# Altium schematic symbol library RF_Adaptor.SCHLIB: 29 symbols
Pins are listed as number, name and electrical type; pins without a type are passive.

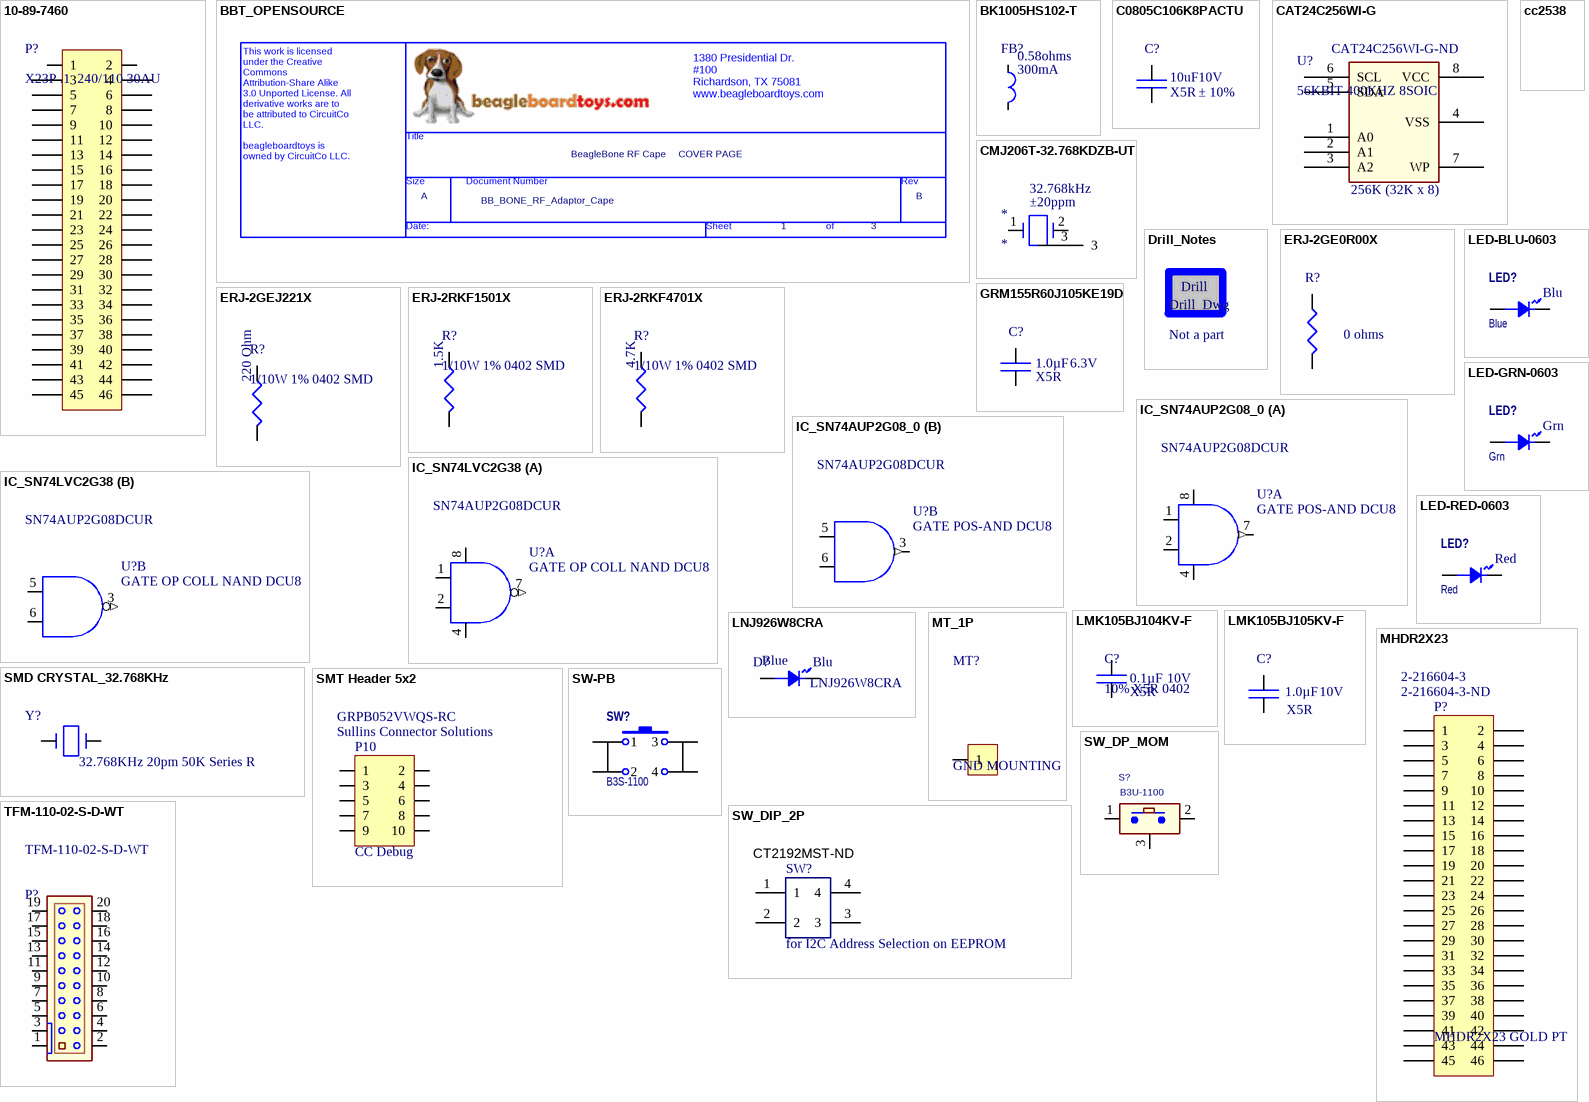
[diagram p0: symbols 10-89-7460 to TFM-110-02-S-D-WT]

## 10-89-7460
designator P?, comment X23P .1  240/110 30AU
Headers & Wire Housings HDR VT 2X23P .1  240/110 30AU; Manufacturer: Molex; Current Rating: 3 A; Mounting Angle: Vertical; Voltage Rating: 250 V; Pitch: 2.54 mm; Number of Positions / Contacts: 46; Supplier 1: Mouser; RoHS: RoHS Compliant; Category: Headers & Wire Housings; Stock 1: 0; Pricing 1: 890=3.47, 1000=3.29 (AUD); Contact Plating: Gold; Housing Material: Thermoplastic, High Temperature; Number of Rows: 2; Packaging: Bag; Series: C-Grid Series; Termination Style: Solder; Contact Material: Brass; Mounting Style: Through Hole; Product Category: C-Grid Connectors; Product Type: Headers - Breakaway; Standard Pack Qty: 375; RoHS - Mouser: Y; Minimum Order Quantity: 890; Reeling: False; ComponentLink1URL: http://www.molex.com/webdocs/datasheets/pdf/en-us/0010897460_PCB_HEADERS.pdf; ComponentLink1Description: http://www.molex.com/webdocs/datasheets/pdf/en-us/0010897460_PCB_HEADERS.pdf; Supplier Part Number 1: 538-10-89-7460; Manufacturer Part Number: 10-89-7460
footprint HEADER23X2
pins: 1, 2, 3, 4, 5, 6, 7, 8, 9, 10, 11, 12, 13, 14, 15, 16, 17, 18, 19, 20, 21, 22, 23, 24, 25, 26, 27, 28, 29, 30, 31, 32, 33, 34, 35, 36, 37, 38, 39, 40, 41, 42, 43, 44, 45, 46

## BBT_OPENSOURCE
designator *?  Page Count: 3  Page Number: 1  Page Size: A  Title: BeagleBone RF Cape     COVER PAGE  RevCode: B  Doc: BB_BONE_RF_Adaptor_Cape  (hidden comment: BBT_OPENSOURCE)  (graphical)
OrgName: BBT; Page Create Date: July 16 2012
text: 1380 Presidential Dr. / #100 / Richardson, TX 75081 / www.beagleboardtoys.com /; Title; Size; Document Number; Rev; Date:; Sheet; of; This work is licensed / under the Creative / Commons / Attribution-Share Alike / 3.0 Unported License. All / derivative works are to / be attributed to CircuitCo / LLC. / beagleboardtoys is / owned by CircuitCo LLC. /

## BK1005HS102-T
designator FB?, comment DC Resistance Max: 0.58ohms  DC Current Rating: 300mA  (hidden comment: 0402, 580mOHM, 300mA)
FERRITE BEAD, 0402, 580mOHM, 300mA; Manufacturer: TAIYO YUDEN; Manufacturer Part Number: BK1005HS102-T; Description: TAIYO YUDEN - BK1005HS102-T - FERRITE BEAD, 0402, 580mOHM, 300mA; Impedance: 1; Ferrite Grade: HS; Ferrite Mounting: SMD; Ferrite Case Style: 0402 / 1005; Supplier 1: Newark; RoHS: YES; Stock 1: 9870; Pricing 1: 1=0.328, 10=0.219, 50=0.113, 100=0.088, 250=0.063, 500=0.045, 1000=0.033, 4000=0.024 (USD); Series: LF BK; ComponentLink1URL: http://www.yuden.co.jp/ut/product/category/emisuppression/BK1005HS102-T.pdf; ComponentLink1Description: http://www.yuden.co.jp/ut/product/category/emisuppression/BK1005HS102-T.pdf; ComponentLink2URL: http://www.yuden.co.jp/us/product/pdf_html/pdf/E)Chip%20Beads.pdf; ComponentLink2Description: http://www.yuden.co.jp/us/product/pdf_html/pdf/E)Chip%20Beads.pdf; Supplier Part Number 1: 87K3443
footprint SMT IND 0402 (Chip Inductor, Body 1.0x0.5mm, IPC Medium Density)
pins: 1, 2

## C0805C106K8PACTU
designator C?, comment Dielectric Characteristic: X5R  Capacitance: 10uF  Capacitance Tolerance: ± 10%  Voltage Rating: 10V  (hidden comment: 10V, X5R, 0805)
CAP CER10UF, 10V, X5R, 0805; Manufacturer: KEMET; Manufacturer Part Number: C0805C106K8PACTU; Description: KEMET - C0805C106K8PACTU - CAPACITOR CERAMIC, 10UF, 10V, X5R, 0805; Capacitor Case Style: 0805; Capacitor Mounting: SMD; Supplier 1: Newark; RoHS: YES; Stock 1: 144494; Pricing 1: 1=0.25, 10=0.25, 100=0.24, 500=0.234, 1000=0.2, 2500=0.183, 5000=0.162, 10000=0.157 (USD); Operating Temperature Range: -55°C to +85; ComponentLink1URL: http://www.kemet.com/kemet/web/homepage/kechome.nsf/file/Commercial Ceramic Chips X5R Dielectric/$file/KEM_C1006_X5R_SMD.pdf; ComponentLink1Description: http://www.kemet.com/kemet/web/homepage/kechome.nsf/file/Commercial Ceramic Chips X5R Dielectric/$file/KEM_C1006_X5R_SMD.pdf; ComponentLink2URL: http://www.farnell.com/cad/1455916.zip; ComponentLink2Description: http://www.farnell.com/cad/1455916.zip; ComponentLink3URL: http://www.semtech.com.hk/Transistor/Packing/Tape%20and%20Reel%20Specifications%20and%20Packaging%20Specifications.pdf; ComponentLink3Description: http://www.semtech.com.hk/Transistor/Packing/Tape%20and%20Reel%20Specifications%20and%20Packaging%20Specifications.pdf; ComponentLink4URL: http://www.kemet.com/kemet/web/homepage/kechome.nsf/file/Commercial%20Ceramic%20Chips%20X5R%20Dielectric/$file/F3102_X5R.pdf; ComponentLink4Description: http://www.kemet.com/kemet/web/homepage/kechome.nsf/file/Commercial%20Ceramic%20Chips%20X5R%20Dielectric/$file/F3102_X5R.pdf; Supplier Part Number 1: 70K9138
footprint CC0805
pins: 1, 2

## CAT24C256WI-G
designator U?, comment 56KBIT 400KHZ 8SOIC  Memory Size: 256K (32K x 8)  Supplier Part Number 1: CAT24C256WI-G-ND
IC EEPROM 256KBIT 400KHZ 8SOIC; Manufacturer: ON Semiconductor; Manufacturer Part Number: CAT24C256WI-G; Format - Memory: EEPROMs - Serial; Interface: I²C, 2-Wire Serial; Voltage - Supply: 1.8 V ~ 5.5 V; Supplier 1: Digi-Key; RoHS: RoHS Compliant; Category: Integrated Circuits (ICs); Stock 1: 0; Pricing 1: 1=1.33, 25=1.0624, 100=0.9295, 250=0.81572, 500=0.72086, 1000=0.5691, 2500=0.53116, 5000=0.5046, 10000=0.48374 (USD); Memory Type: EEPROM; Speed: 400kHz; Operating Temperature: -40°C ~ 85°C; Package / Case: 8-SOIC (0.154", 3.90mm Width); Supplier Device Package: 8-SOICN; Packaging: Tube; ComponentLink1URL: http://www.onsemi.com/pub_link/Collateral/CAT24C256-D.PDF; ComponentLink1Description: http://www.onsemi.com/pub_link/Collateral/CAT24C256-D.PDF
footprint SO8 (Small Outline; 8 Leads; Body Width 3.9 mm; Pitch 1.27 mm)
pins: 1 A0, 2 A1, 3 A2, 4 VSS (power), 5 SDA, 6 SCL, 7 WP, 8 VCC (power)

## cc2538
designator ?  (value not drawn)
FERRITE BEAD, 0402, 580mOHM, 300mA; Manufacturer: TAIYO YUDEN; Manufacturer Part Number: BK1005HS102-T; Description: TAIYO YUDEN - BK1005HS102-T - FERRITE BEAD, 0402, 580mOHM, 300mA; Impedance: 1; Ferrite Grade: HS; Ferrite Mounting: SMD; Ferrite Case Style: 0402 / 1005; RoHS: YES; Series: LF BK; ComponentLink1URL: http://www.yuden.co.jp/ut/product/category/emisuppression/BK1005HS102-T.pdf; ComponentLink1Description: http://www.yuden.co.jp/ut/product/category/emisuppression/BK1005HS102-T.pdf; ComponentLink2URL: http://www.yuden.co.jp/us/product/pdf_html/pdf/E)Chip%20Beads.pdf; ComponentLink2Description: http://www.yuden.co.jp/us/product/pdf_html/pdf/E)Chip%20Beads.pdf
footprint CC2538

## CMJ206T-32.768KDZB-UT
designator *  Frequency: 32.768kHz  Frequency Tolerance: ±20ppm
CRYSTAL 32.768 KHZ 6PF SMD; Manufacturer: Citizen Finetech Miyota; Manufacturer Part Number: CMJ206T-32.768KDZB-UT; Operating Mode: Fundamental; Supplier 1: Digi-Key; RoHS: RoHS Compliant; Category: Crystals and Oscillators; Stock 1: 30000; Pricing 1: 3000=0.297, 6000=0.286, 12000=0.275, 27000=0.264 (USD); Type: kHz Crystal (Tuning Fork); Frequency Stability: -; Load Capacitance: 6pF; Operating Temperature: -40°C ~ 85°C; Mounting Type: Surface Mount; Package / Case: Cylindrical Can, Radial; Size / Dimension: 0.098" Dia x 0.236" L (2.50mm x 6.00mm); Height: 0.098" (2.50mm); Packaging: Tape & Reel (TR); ComponentLink1URL: http://media.digikey.com/pdf/Data%20Sheets/Citizen%20PDFs/CMJ206T.pdf; ComponentLink1Description: http://media.digikey.com/pdf/Data%20Sheets/Citizen%20PDFs/CMJ206T.pdf; Supplier Part Number 1: 300-8664-2-ND
footprint SMD Cylinder Crystal (Tuning Fork)
pins: 1, 2, 3

## Drill_Notes
designator Drill_Dwg, comment Not a part
footprint Drill (TEmplate)
text: Drill

## ERJ-2GE0R00X
designator R?, comment Resistance (Ohms): 0 ohms  (hidden comment: 0402 Chip Res 5%)
RES 0.0 OHM 1/10W 0402 SMD; Manufacturer: Panasonic - ECG; Manufacturer Part Number: ERJ-2GE0R00X; Power (Watts): 0.1W, 1/10W; Tolerance: Jumper; Supplier 1: Digi-Key; RoHS: RoHS Compliant; Category: Resistors; Stock 1: 6266946; Pricing 1: 1=0.05, 50=0.0172, 100=0.0131, 250=0.00976, 500=0.0072, 1000=0.0048, 5000=0.00338 (USD); Composition: Thick Film; Features: -; Temperature Coefficient: -; Size / Dimension: 0.039" L x 0.020" W (1.00mm x 0.50mm); Height: 0.016" (0.40mm); Number of Terminations: 2; Packaging: Digi-Reel®; Package / Case: 0402 (1005 Metric); ComponentLink1URL: http://industrial.panasonic.com/www-cgi/jvcr13pz.cgi?E+PZ+3+AOA0001+ERJ2GE0R00X+7+WW; ComponentLink1Description: http://industrial.panasonic.com/www-cgi/jvcr13pz.cgi?E+PZ+3+AOA0001+ERJ2GE0R00X+7+WW; Supplier Part Number 1: P0.0JDKR-ND
footprint RESC0402 (Chip Resistor, Body 1.1x0.5mm, IPC High Density)
pins: 1, 2

## ERJ-2GEJ221X
designator R?, comment 1/10W 1% 0402 SMD  Resistance (Ohms): 220 Ohm
RES 220 OHM 1/10W 1% 0402 SMD; Manufacturer: Panasonic - ECG; Manufacturer Part Number: ERJ-2GEJ221X; Power (Watts): 0.1W, 1/10W; Temperature Coefficient: ±100ppm/°C; RoHS: RoHS Compliant; Category: Resistors; Composition: Thick Film; Features: -; Tolerance: ±1%; Size / Dimension: 0.039" L x 0.020" W (1.00mm x 0.50mm); Height: 0.016" (0.40mm); Number of Terminations: 2; Packaging: Cut Tape (CT); Package / Case: 0402 (1005 Metric); ComponentLink1URL: http://industrial.panasonic.com/www-cgi/jvcr13pz.cgi?E+PZ+3+AOA0002+ERJ2RKF1501X+7+WW; ComponentLink1Description: http://industrial.panasonic.com/www-cgi/jvcr13pz.cgi?E+PZ+3+AOA0002+ERJ2RKF1501X+7+WW; Supplier 1: Digi-Key; Supplier Part Number 1: P220JCT-ND
footprint RESC0402 (Chip Resistor, Body 1.1x0.5mm, IPC High Density)
pins: 1, 2

## ERJ-2RKF1501X
designator R?, comment 1/10W 1% 0402 SMD  Resistance (Ohms): 1.5K
RES 1.50K OHM 1/10W 1% 0402 SMD; Manufacturer: Panasonic - ECG; Manufacturer Part Number: ERJ-2RKF1501X; Power (Watts): 0.1W, 1/10W; Temperature Coefficient: ±100ppm/°C; Supplier 1: Digi-Key; RoHS: RoHS Compliant; Category: Resistors; Stock 1: 1107937; Pricing 1: 1=0.06, 50=0.0242, 100=0.0184, 250=0.01364, 500=0.01008, 1000=0.00672, 5000=0.00473 (USD); Composition: Thick Film; Features: -; Tolerance: ±1%; Size / Dimension: 0.039" L x 0.020" W (1.00mm x 0.50mm); Height: 0.016" (0.40mm); Number of Terminations: 2; Packaging: Cut Tape (CT); Package / Case: 0402 (1005 Metric); ComponentLink1URL: http://industrial.panasonic.com/www-cgi/jvcr13pz.cgi?E+PZ+3+AOA0002+ERJ2RKF1501X+7+WW; ComponentLink1Description: http://industrial.panasonic.com/www-cgi/jvcr13pz.cgi?E+PZ+3+AOA0002+ERJ2RKF1501X+7+WW; Supplier Part Number 1: P1.50KLCT-ND
footprint RESC0402 (Chip Resistor, Body 1.1x0.5mm, IPC High Density)
pins: 1, 2

## ERJ-2RKF4701X
designator R?, comment 1/10W 1% 0402 SMD  Resistance (Ohms): 4.7K
RES 4.70K OHM 1/10W 1% 0402 SMD; Manufacturer: Panasonic - ECG; Manufacturer Part Number: ERJ-2RKF4701X; Power (Watts): 0.1W, 1/10W; Temperature Coefficient: ±100ppm/°C; Supplier 1: Digi-Key; RoHS: RoHS Compliant; Category: Resistors; Stock 1: 1996806; Pricing 1: 1=0.06, 50=0.0242, 100=0.0184, 250=0.01364, 500=0.01008, 1000=0.00672, 5000=0.00473 (USD); Composition: Thick Film; Features: -; Tolerance: ±1%; Size / Dimension: 0.039" L x 0.020" W (1.00mm x 0.50mm); Height: 0.016" (0.40mm); Number of Terminations: 2; Packaging: Cut Tape (CT); Package / Case: 0402 (1005 Metric); ComponentLink1URL: http://industrial.panasonic.com/www-cgi/jvcr13pz.cgi?E+PZ+3+AOA0002+ERJ2RKF4701X+7+WW; ComponentLink1Description: http://industrial.panasonic.com/www-cgi/jvcr13pz.cgi?E+PZ+3+AOA0002+ERJ2RKF4701X+7+WW; Supplier Part Number 1: P4.70KLCT-ND
footprint RESC0402 (Chip Resistor, Body 1.1x0.5mm, IPC High Density)
pins: 1, 2

## GRM155R60J105KE19D
designator C?, comment Capacitance: 1.0µF  Voltage - Rated: 6.3V  Temperature Coefficient: X5R  (hidden comment: 10% X5R 0402)
CAP CER 1UF 6.3V 10% X5R 0402; Manufacturer: Murata Electronics North America; Manufacturer Part Number: GRM155R60J105KE19D; Supplier 1: Digi-Key; RoHS: RoHS Compliant; Category: Capacitors; Stock 1: 41735; Pricing 1: 10=0.069, 50=0.0552, 100=0.0414, 250=0.02992, 500=0.02208, 1000=0.01495 (USD); Tolerance: ±10%; Mounting Type: Surface Mount, MLCC; Operating Temperature: -55°C ~ 85°C; Applications: General Purpose; Ratings: -; Package / Case: 0402 (1005 Metric); Size / Dimension: 0.039" L x 0.020" W (1.00mm x 0.50mm); Height - Seated (Max): -; Thickness (Max): 0.022" (0.55mm); Lead Spacing: -; Features: -; Packaging: Digi-Reel®; Lead Style: -; ComponentLink1URL: http://search.murata.co.jp/Ceramy/image/img/PDF/ENG/GRM155R60J105KE19.pdf; ComponentLink1Description: http://search.murata.co.jp/Ceramy/image/img/PDF/ENG/GRM155R60J105KE19.pdf; Supplier Part Number 1: 490-1320-6-ND
footprint CC0402 (Chip Capacitor, Body 1.0x0.5mm, IPC Low Density)
pins: 1, 2

## IC_SN74AUP2G08_0
designator U?, comment GATE POS-AND DCU8  Manufacturer Part Number: SN74AUP2G08DCUR
IC GATE POS-AND DL 2INP LP 8US8; TIIntPartnumber: 1A0249; MfrNum: SN74AUP2G08DCU; Mfr: TI; PartName: SN74AUP2G08; Manufacturer: Texas Instruments; Part Number: IC_SN74AUP2G08_DCUR; Vendor: Digikey; Logic Type: AND Gate; Number of Inputs: 2; Current - Output High, Low: 4mA, 4mA; Voltage - Supply: 0.8 V ~ 3.6 V; Logic Family: AUP; Number of Lines (Input / Output): 2 / 1; Number of Output Lines: 1; Supply Voltage (Max): 3.6 V; Supply Voltage (Min): 0.8 V; High Level Output Current: - 4 mA; Low Level Output Current: 4 mA; Propagation Delay Time: 26.3 ns; RoHS: RoHS Compliant; Category: Integrated Circuits (ICs); Number of Circuits: 2; Operating Temperature: -40°C ~ 85°C; Mounting Type: Surface Mount; Package / Case: 8-VFSOP (0.091", 2.30mm Width); Supplier Device Package: US8; Packaging: Tape & Reel (TR); ComponentLink1URL: http://www.ti.com/lit/ds/symlink/sn74aup2g08.pdf; ComponentLink1Description: http://www.ti.com/lit/ds/symlink/sn74aup2g08.pdf; Product: AND; Mounting Style: SMD/SMT; Number of Gates: 2; Number of Input Lines: 2; Maximum Operating Temperature: + 85 C; Minimum Operating Temperature: - 40 C; Product Category: Logic - Gates; RoHS - Mouser: Y; Minimum Order Quantity: 1; Reeling: True; ComponentLink2URL: http://www.ti.com/lit/gpn/sn74aup2g08; ComponentLink2Description: http://www.ti.com/lit/gpn/sn74aup2g08; Supplier 1: Digi-Key; Supplier Part Number 1: 296-32271-1-ND
footprint DCU-8 (Dual Little Logic)
part A pins: 1 2A, 2 2B, 4 GND (power), 7 2Y (out), 8 VCC (power)
part B pins: 3 2Y (out), 5 2A, 6 2B

## IC_SN74LVC2G38
designator U?, comment GATE OP COLL NAND DCU8  Manufacturer Part Number: SN74AUP2G08DCUR
DUAL OPEN COLL NAND GATE DCU8; TIIntPartnumber: 1A0249; MfrNum: SN74AUP2G08DCU; Mfr: TI; PartName: SN74AUP2G08; Manufacturer: Texas Instruments; Part Number: IC_SN74AUP2G08_DCUR; Vendor: Digikey; Description: IC GATE POS-AND DL 2INP LP 8US8; Number of Inputs: 2; Current - Output High, Low: 4mA, 4mA; Voltage - Supply: 0.8 V ~ 3.6 V; Logic Family: AUP; Number of Lines (Input / Output): 2 / 1; Number of Output Lines: 1; Supply Voltage (Max): 3.6 V; Supply Voltage (Min): 0.8 V; High Level Output Current: - 4 mA; Low Level Output Current: 4 mA; Propagation Delay Time: 26.3 ns; RoHS: RoHS Compliant; Category: Integrated Circuits (ICs); Logic Type: AND Gate; Number of Circuits: 2; Operating Temperature: -40°C ~ 85°C; Mounting Type: Surface Mount; Package / Case: 8-VFSOP (0.091", 2.30mm Width); Supplier Device Package: US8; Packaging: Tape & Reel (TR); ComponentLink1URL: http://www.ti.com/lit/ds/symlink/sn74aup2g08.pdf; ComponentLink1Description: http://www.ti.com/lit/ds/symlink/sn74aup2g08.pdf; Product: AND; Mounting Style: SMD/SMT; Number of Gates: 2; Number of Input Lines: 2; Maximum Operating Temperature: + 85 C; Minimum Operating Temperature: - 40 C; Product Category: Logic - Gates; RoHS - Mouser: Y; Minimum Order Quantity: 1; Reeling: True; ComponentLink2URL: http://www.ti.com/lit/gpn/sn74aup2g08; ComponentLink2Description: http://www.ti.com/lit/gpn/sn74aup2g08; Supplier 1: Digi-Key; Supplier Part Number 1: 296-18808-1-ND
footprint DCU-8 (Dual Little Logic)
part A pins: 1 1A, 2 1B, 4 GND (power), 7 1Y (out), 8 VCC (power)
part B pins: 3 2Y (out), 5 2A, 6 2B

## LED-BLU-0603
designator LED?, comment Blue
SMT LED 0603; Mfg. Part Number: LNJ926W8CR; Desc.: LED BLUE 0603; Mfg.: Panasonic; Supplier 1: Digi-Key; Supplier Part Number 1: P13484CT-ND
footprint LED-0603
pins: A ANODE, K CATHODE
text: Blu

## LED-GRN-0603
designator LED?, comment Grn
SMT LED 0603; Mfg. Part Number: LNJ312G8LRA; Desc.: LED GRN 0603; Mfg.: Panasonic; Supplier 1: Digi-Key; Supplier Part Number 1: P11473TR-ND
footprint LED-0603
pins: A ANODE, K CATHODE

## LED-RED-0603
designator LED?, comment Red
SMT LED 0603; Mfg. Part Number: LNJ312G8LRA; Desc.: LED RED 0603; Mfg.: Panasonic; Supplier 1: Digi-Key; Supplier Part Number 1: P11466TR-ND
footprint LED-0603
pins: A ANODE, K CATHODE

## LMK105BJ104KV-F
designator C?, comment 10% X5R 0402  Capacitance: 0.1µF  Voltage - Rated: 10V  Temperature Coefficient: X5R
CAP CER 0.1UF 10V 10% X5R 0402; Manufacturer: Taiyo Yuden; Manufacturer Part Number: LMK105BJ104KV-F; Supplier 1: Digi-Key; RoHS: RoHS Compliant; Category: Capacitors; Stock 1: 3218784; Pricing 1: 1=0.04, 10=0.025, 50=0.012, 100=0.009, 250=0.00652, 500=0.0048, 1000=0.00325, 5000=0.0025 (USD); Tolerance: ±10%; Mounting Type: Surface Mount, MLCC; Operating Temperature: -55°C ~ 85°C; Applications: General Purpose; Ratings: -; Package / Case: 0402 (1005 Metric); Size / Dimension: 0.039" L x 0.020" W (1.00mm x 0.50mm); Height - Seated (Max): -; Thickness (Max): 0.022" (0.55mm); Lead Spacing: -; Features: -; Packaging: Digi-Reel®; Lead Style: -; ComponentLink1URL: http://www.yuden.co.jp/productdata/catalog/en/mlcc01_e.pdf; ComponentLink1Description: http://www.yuden.co.jp/productdata/catalog/en/mlcc01_e.pdf; Supplier Part Number 1: 587-1227-6-ND
footprint CC0402 (Chip Capacitor, Body 1.0x0.5mm, IPC Low Density)
pins: 1, 2

## LMK105BJ105KV-F
designator C?, comment Capacitance: 1.0µF  Voltage - Rated: 10V  Temperature Coefficient: X5R  (hidden comment: 10% X5R 0402)
CAP CER 1UF 10V 10% X5R 0402; Manufacturer: Taiyo Yuden; Manufacturer Part Number: LMK105BJ105KV-F; Supplier 1: Digi-Key; RoHS: RoHS Compliant; Category: Capacitors; Stock 1: 310000; Pricing 1: 10000=0.00798, 20000=0.0076, 30000=0.00722, 50000=0.00646 (USD); Tolerance: ±10%; Mounting Type: Surface Mount, MLCC; Operating Temperature: -55°C ~ 85°C; Applications: General Purpose; Ratings: -; Package / Case: 0402 (1005 Metric); Size / Dimension: 0.039" L x 0.020" W (1.00mm x 0.50mm); Height - Seated (Max): -; Thickness (Max): 0.022" (0.55mm); Lead Spacing: -; Features: -; Packaging: Tape & Reel (TR); Lead Style: -; ComponentLink1URL: http://www.yuden.co.jp/productdata/catalog/en/mlcc01_e.pdf; ComponentLink1Description: http://www.yuden.co.jp/productdata/catalog/en/mlcc01_e.pdf; Supplier Part Number 1: 587-1454-2-ND
footprint CC0402 (Chip Capacitor, Body 1.0x0.5mm, IPC Low Density)
pins: 1, 2

## LNJ926W8CRA
designator D?, comment Color: Blue  Manufacturer Part Number: LNJ926W8CRA  (hidden comment: BLUE HIGH BRIGHT LED 0603)
LED BLUE HIGH BRIGHT USS 0603; Manufacturer: Panasonic - SSG; Millicandela Rating: 11.5mcd; Current - Test: 5mA; Wavelength - Dominant: 470nm; Wavelength - Peak: 465nm; Voltage - Forward (Vf) Typ: 2.9V; Lens Style/Size: Rectangle with Flat Top, 1.1mm x 0.8mm; Supplier 1: Digi-Key; RoHS: RoHS Compliant; Category: Optoelectronics; Stock 1: 0; Pricing 1: 1=0.71, 25=0.4936, 100=0.4231, 250=0.36536, 500=0.3141, 1000=0.24358 (USD); Luminous Flux @ Current - Test: -; Lens Type: -; Package / Case: 0603 (1608 Metric); Size / Dimension: 1.60mm L x 0.80mm W; Height: 0.35mm; Viewing Angle: -; Mounting Type: Surface Mount; Packaging: Digi-Reel®; ComponentLink1URL: http://industrial.panasonic.com/www-cgi/jvcr13pz.cgi?E+SC+4+ATA7003+LNJ926W8CRA+8+WW; ComponentLink1Description: http://industrial.panasonic.com/www-cgi/jvcr13pz.cgi?E+SC+4+ATA7003+LNJ926W8CRA+8+WW; Supplier Part Number 1: P13484DKR-ND
footprint LED-0603
pins: A ANODE, K CATHODE
text: Blu

## MHDR2X23
designator P?, comment MHDR2X23 GOLD PT  Supplier Part Number 1: 2-216604-3-ND  Manufacturer Part Number: 2-216604-3
MALE HEADER 23 x2, .100SP, .240H; MANUFACTURER: MAJOR LEAGUE; MAN PART NUMBER: TSHC-123-D-03-240-GT-LF; Description: CONN RCPT HV-190 R/A DUAL 46POS; Connector Type: Receptacle; Number of Positions: 46; Number of Positions Loaded: All; Pitch: 0.100" (2.54mm); Supplier 1: Digi-Key; RoHS: RoHS Compliant; Category: Connectors, Interconnects; Stock 1: 0; Pricing 1: 350=11.26851 (USD); Number of Rows: 2; Row Spacing: 0.100" (2.54mm); Height Stacking (Mating): -; Height Above Board: 0.228" (5.80mm); Mounting Type: Through Hole, Right Angle; Termination: Solder; Contact Finish: Gold; Contact Finish Thickness: 31.5µin (0.80µm); Features: -; Color: Green; Packaging: Bulk; ComponentLink1URL: http://documents.tycoelectronics.com/commerce/DocumentDelivery/DDEController?Action=srchrtrv&DocNm=216604&DocType=CD&DocLang=EN; ComponentLink1Description: http://documents.tycoelectronics.com/commerce/DocumentDelivery/DDEController?Action=srchrtrv&DocNm=216604&DocType=CD&DocLang=EN
footprint HEADER23X2
pins: 1, 2, 3, 4, 5, 6, 7, 8, 9, 10, 11, 12, 13, 14, 15, 16, 17, 18, 19, 20, 21, 22, 23, 24, 25, 26, 27, 28, 29, 30, 31, 32, 33, 34, 35, 36, 37, 38, 39, 40, 41, 42, 43, 44, 45, 46

## MT_1P
designator MT?, comment GND MOUNTING
1P .125DIA; Manufacturer: DNP; Desc.: MOUNTING HOLE 0.125Dia; Description: CONN HEADER VERT .125 1POS; Connector Type: Header, Unshrouded; Number of Positions: 1; Number of Positions Loaded: All; Row Spacing: 0; Supplier 1: Digi-Key; Supplier Part Number 1: A26541-ND; RoHS: RoHS Compliant; Category: Connectors, Interconnects; Stock 1: 6144; Pricing 1: 1=0.58, 10=0.541, 25=0.4868, 50=0.4328, 100=0.4148, 250=0.37876, 500=0.36072, 1000=0.29759, 2500=0.27054 (USD); Contact Type: Male Pin; Pitch: .125Dia; Number of Rows: 1; Contact Mating Length: 0.318" (8.08mm); Mounting Type: Through Hole; Termination: Solder; Fastening Type: -; Features: -; Contact Finish: Gold; Contact Finish Thickness: 15µin (0.38µm); Color: Black; Packaging: Bulk; ComponentLink1URL: http://documents.tycoelectronics.com/commerce/DocumentDelivery/DDEController?Action=srchrtrv&DocNm=87224&DocType=CD&DocLang=EN; ComponentLink1Description: http://documents.tycoelectronics.com/commerce/DocumentDelivery/DDEController?Action=srchrtrv&DocNm=87224&DocType=CD&DocLang=EN; Manufacturer Part Number: DNP
footprint MTG_HOLE
pins: 1

## SMD CRYSTAL_32.768KHz
designator Y?, comment value 32.768KHz 20pm 50K Series R  (hidden comment: XTAL_130x63x36)
Watch Crystal 50K max Series R; Mfg. Part Number: CC7V-T1A 32.768kHz 12.5pF +/-20ppm; Manufacturer: Citizen Finetech Miyota; Manufacturer Part Number: CMJ206T-32.768KDZB-UT; Desc.: SMT Crystal; Mfg.: Micro Crystal; Description: CRYSTAL 32.768 KHZ 6PF SMD; Frequency: 32.768kHz; Frequency Tolerance: ±20ppm; Load Capacitance: 6pF; Operating Mode: Fundamental; Supplier Part Number 1: 300-8664-1-ND; Supplier 2: Digi-Key; RoHS: RoHS Compliant; Category: Crystals and Oscillators; Stock 2: 30000; Pricing 2: 3000=0.297, 6000=0.286, 12000=0.275, 27000=0.264 (USD); Type: kHz Crystal (Tuning Fork); Frequency Stability: -; Operating Temperature: -40°C ~ 85°C; Mounting Type: Surface Mount; Package / Case: Cylindrical Can, Radial; Size / Dimension: 0.098" Dia x 0.236" L (2.50mm x 6.00mm); Height: 0.098" (2.50mm); Packaging: Tape & Reel (TR); ComponentLink1URL: http://media.digikey.com/pdf/Data%20Sheets/Citizen%20PDFs/CMJ206T.pdf; ComponentLink1Description: http://media.digikey.com/pdf/Data%20Sheets/Citizen%20PDFs/CMJ206T.pdf; Supplier Part Number 2: 300-8664-2-ND
footprint SMD Cylinder Crystal (Tuning Fork)
pins: 1, 2

## SMT Header 5x2
designator P10, comment CC Debug  Manufacturer: Sullins Connector Solutions  Manufacturer Part Number: GRPB052VWQS-RC
SMT Header, 10-Pin, .050LS Dual row; Desc.: SMT Header .050 Lead spacing SMT; Mfg.: Sullins; Description: CONN HEADER .050" 10PS DL SMD AU; Connector Type: Header, Unshrouded; Number of Positions: 10; Number of Positions Loaded: All; Pitch: 0.050" (1.27mm); Mfg. Part Number: GRPB052VWQS-RC; Supplier 1: Digi-Key; Supplier Part Number 1: S9012E-05-ND; RoHS: RoHS Compliant; Category: Connectors, Interconnects; Stock 1: 4993; Pricing 1: 1=1.08, 10=0.899, 50=0.7492, 100=0.666, 250=0.58276, 500=0.5328, 1000=0.48285, 2500=0.4329, 5000=0.42458 (USD); Contact Type: Male Pin; Number of Rows: 2; Row Spacing: 0.050" (1.27mm); Contact Mating Length: 0.118" (3.00mm); Mounting Type: Surface Mount; Termination: Solder; Fastening Type: -; Features: -; Contact Finish: Gold; Contact Finish Thickness: Flash; Color: -; Packaging: Bulk; ComponentLink1URL: http://media.digikey.com/pdf/Data%20Sheets/Sullins%20PDFs/GRPB_%20_2VWQS-RC%2010958-C.pdf; ComponentLink1Description: http://media.digikey.com/pdf/Data%20Sheets/Sullins%20PDFs/GRPB_%20_2VWQS-RC%2010958-C.pdf
footprint HEADER10P (CC Debugg 0.50LS Dual Row)
pins: 1, 2, 3, 4, 5, 6, 7, 8, 9, 10

## SW-PB
designator SW?, comment B3S-1100
Switch, Tact 6mm SMT; Part Field 1: SW-TACT-6MM; Manufacturer: Omron; Part Number: B3S-1000; Supplier 1: Digi-Key; Supplier Part Number 1: SW844TR-ND
footprint SWITCH-OMRON-B3S-1000
pins: 1, 2, 3, 4
2 alternate drawings of the same symbol

## SW_DIP_2P
designator SW?, comment for I2C Address Selection on EEPROM  Supplier Part Number 1: CT2192MST-ND
SMT 2Pos Slide Dip Switch; Manufacturer: CTS; PartNumber: 2192MST; Description: CTS - 2192MST - SWITCH, DIP, 2 POS, SPST, RECESSED; Contact Configuration: SPST; No. of Switch Positions: 2; Actuator Style: Recessed; Pitch Spacing: 2.54; Contact Current DC Max: 25; Switch Mounting: PCB; Circuitry: SPST-CO; RoHS: YES; Color: Black; ComponentLink1URL: http://www.farnell.com/datasheets/32975.pdf; ComponentLink1Description: http://www.farnell.com/datasheets/32975.pdf; Category: Switch; Supplier 1: Digi-Key
footprint SM_CRY_SCC18
pins: 1, 2, 3, 4

## SW_DP_MOM
designator S?, comment B3U-1100
CLASS: DISCRETE; TN: 276-0043-000
footprint SW3_4X2P5
pins: 1 A1, 2 A2, 3 A3

## TFM-110-02-S-D-WT
designator P?, comment Manufacturer Part Number: TFM-110-02-S-D-WT  (hidden comment: 20POS 1.27MM GLD SMD)
CONN HEADER 20POS 1.27MM GLD SMD; Manufacturer: Samtec Inc; Connector Type: Receptacle; Number of Positions: 20; Number of Positions Loaded: All; Pitch: 0.050" (1.27mm); Supplier 1: Digi-Key; RoHS: RoHS Compliant; Category: Connectors, Interconnects; Stock 1: 353; Pricing 1: 1=5.56, 10=4.708, 25=4.494, 50=4.066, 100=3.638, 250=3.21, 500=2.996, 1000=2.782, 2500=2.675 (USD); Contact Type: Male Pin; Number of Rows: 2; Row Spacing: 0.050" (1.27mm); Contact Mating Length: -; Mounting Type: Surface Mount; Termination: Solder; Fastening Type: -; Features: Solder Retention; Contact Finish: Gold; Contact Finish Thickness: 30µin (0.76µm); Color: Black; Packaging: Tube; ComponentLink1URL: http://www.samtec.com/ftppub/cpdf/TFM-1XX-XX-XXX-X-XXX.PDF; ComponentLink1Description: http://www.samtec.com/ftppub/cpdf/TFM-1XX-XX-XXX-X-XXX.PDF; Supplier Part Number 1: SAM8705-ND
footprint TFM-110-02-X-D-A (1.27mm pitch, 20 pin, terminal strip; w/alignment pins, SMT)
pins: 1, 2, 3, 4, 5, 6, 7, 8, 9, 10, 11, 12, 13, 14, 15, 16, 17, 18, 19, 20